# EAGLE library part LED-ARRAY(5) (library matlock)
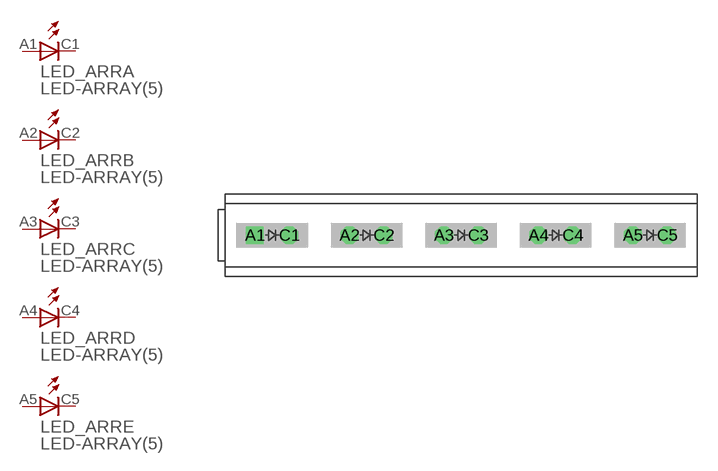
[diagram p3: symbol with the pads of SSA-LXB525S; footprint SSA-LXB525S]

Designator prefix LED_ARR; gates A=LED_PAD_VISIBLE B=LED_PAD_VISIBLE C=LED_PAD_VISIBLE D=LED_PAD_VISIBLE E=LED_PAD_VISIBLE

## LED-ARRAY(5)-SSA-LXB525S  [SSA-LXB525S]
A1  A:A  pas
A2  B:A  pas
A3  C:A  pas
A4  D:A  pas
A5  E:A  pas
C1  A:C  pas
C2  B:C  pas
C3  C:C  pas
C4  D:C  pas
C5  E:C  pas

## Footprint SSA-LXB525S (pad centres in mm)
Lumex SSA-LXB525S 5 element LED array
drill 0.8 square: A1 -15.27,0
drill 0.8 octagon: A2 -8.27,0; A3 -1.27,0; A4 5.73,0; A5 12.73,0; C1 -12.73,0; C2 -5.73,0; C3 1.27,0; C4 8.27,0; C5 15.27,0